# Altium integrated library Component_Footprints.IntLib: 11 symbols
Pins are listed as number, name and electrical type; pins without a type are passive.

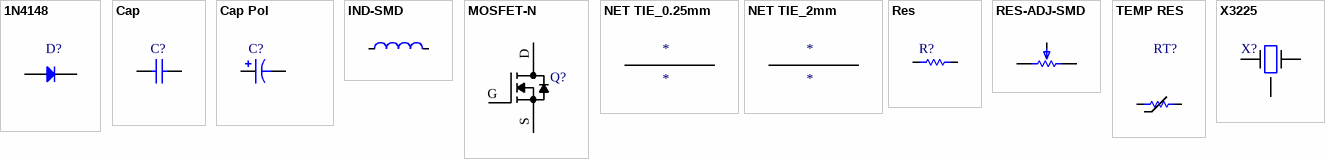
[diagram p0: symbols 1N4148 to X3225]

## 1N4148
designator D?
High Conductance Fast Diode; Published: 8-Jun-2000; LatestRevisionDate: 17-Jul-2002; LatestRevisionNote: Re-released for DXP Platform.; DatasheetVersion: 1997; PackageReference: DO-35; Publisher: Altium Limited; PackageDescription: Diode, Axial; Body 3.8 x 1.9 mm (LxDia. max), Lead Dia. 0.53 mm (max); Code_JEDEC: DO-204-AH; ComponentLink1Description: Manufacturer Link; ComponentLink1URL: http://www.fairchildsemi.com/; ComponentLink2Description: Datasheet; ComponentLink2URL: http://www.fairchildsemi.com/ds/1N%2F1N4148.pdf
footprint SOD-523F (L1.2-W0.8-LS1.7-RD)
footprint SOD-123F (L2.7-W1.6-LS3.8-RD)
pins: 1 K, 2 A

## Cap
designator C?
Capacitor; Published: 8-Jun-2000; LatestRevisionDate: 17-Jul-2002; LatestRevisionNote: Re-released for DXP Platform.; PackageReference: RAD-0.3; Publisher: Altium Limited; PackageDescription: Radial Cap, Thru-Hole; 2 Leads; 0.3 in Pin Spacing
simulation model CAP (Capacitor)
signal-integrity model Cap
footprint C0805
footprint C0603
footprint C1206
footprint C0402
pins: 1, 2

## Cap Pol
designator C?
Polarized Capacitor (Axial); Published: 8-Jun-2000; LatestRevisionDate: 17-Jul-2002; LatestRevisionNote: Re-released for DXP Platform.; PackageReference: POLAR0.8; Publisher: Altium Limited; PackageDescription: Polarized Capacitor; 2 Leads
simulation model CAP (Capacitor)
signal-integrity model Cap Pol
footprint CAP-SMD_BD4.0-L4.3-W4.3-FD-LS5.3
footprint CAP-SMD_L3.5-W2.8-R-RD (tantalum capacitor)
pins: 1, 2
1 alternate drawing of the same symbol

## IND-SMD
designator L?, comment MCS0630-100MPY1  (value not drawn)
电感值:10uH;精度:±20%;额定电流:4A;饱和电流(Isat):5.5A;直流电阻(DCR):62mΩ;; Manufacturer: PSA(信昌电陶); Name: 10uH; Add into BOM: yes; Value: 10uH; Tolerance: ±20%; Rated Current: 4A; Saturation Current (Isat): 5.5A; DC Resistance (DCR): 62mΩ; Symbol: MCS0630-100MPY1; Device: MCS0630-100MPY1; LCSC Part Name: 10uH ±20% 4A 62mΩ; Supplier Part: C2937094; Manufacturer Part: MCS0630-100MPY1; Supplier Footprint: 0630; JLCPCB Part Class: Extended Part; Datasheet: https://atta.szlcsc.com/upload/public/pdf/source/20220121/EA6E6E6F70ED7BAE67EC293805EAAACB.pdf; Supplier: LCSC; Convert to PCB: yes
footprint IND-SMD_L7.3-W6.6
3D model IND-SMD_L7.1-W6.6-H2.8
pins: 1, 2

## MOSFET-N
designator Q?, comment NTMFS4935NT1G  (value not drawn)
MOSFET – Power, Single, / N-Channel, SO-8 FL / 30 V, 93 A; Manufacturer: ON Semiconductor; Drain to Source Voltage (Vdss): 30V; Current - Continuous Drain (Id) @ 25°C: 13A (Ta), 93A (Tc); Drive Voltage (Max Rds On,  Min Rds On): 4.5V, 10V; Vgs(th) (Max) @ Id: 2.2V @ 250µA; Gate Charge (Qg) (Max) @ Vgs: 49.4nC @ 10V; Input Capacitance (Ciss) (Max) @ Vds: 4850pF @ 15V; Vgs (Max): ±20V; Power Dissipation (Max): 930mW (Ta), 48W (Tc); Rds On (Max) @ Id, Vgs: 3.2 mOhm @ 30A, 10V; Supplier 1: Digi-Key; Supplier Part Number 1: NTMFS4935NT1GOSCT-ND; RoHS: RoHS Compliant; Category: Discrete Semiconductor Products; Stock 1: 932; Pricing 1: 1=0.61, 10=0.541, 100=0.4145, 500=0.3277 (USD); Packaging: Cut Tape (CT); Part Status: Active; FET Type: N-Channel; Technology: MOSFET (Metal Oxide); FET Feature: -; Operating Temperature: -55°C ~ 150°C (TJ); Mounting Type: Surface Mount; Supplier Device Package: 5-DFN (5x6) (8-SOFL); Package / Case: 8-PowerTDFN, 5 Leads; ComponentLink1URL: http://www.onsemi.com/pub_link/Collateral/NTMFS4935N-D.PDF; ComponentLink1Description: http://www.onsemi.com/pub_link/Collateral/NTMFS4935N-D.PDF; Manufacturer Part Number: NTMFS4935NT1G
footprint SO-8-FL_L4.8-W5.8-P1.27-LS6.1-L
pins: D, G, S

## NET TIE_0.25mm
designator *
footprint NetTie_0.25mm (Net tie, 0.25mm)
pins: 1, 2

## NET TIE_2mm
designator *
footprint NetTie_2mm (Net tie, 2mm round)
pins: 1, 2

## Res
designator R?
Resistor; Published: 8-Jun-2000; LatestRevisionDate: 17-Jul-2002; LatestRevisionNote: Re-released for DXP Platform.; PackageReference: AXIAL-0.3; Publisher: Altium Limited; PackageDescription: Axial Device, Thru-Hole; 2 Leads; 0.3 in Pin Spacing
simulation model RESISTOR (Resistor)
signal-integrity model Res
footprint R0603
footprint R0805
footprint R0402
footprint R2512
pins: 1, 2

## RES-ADJ-SMD
designator RV?, comment VG039NCHXTB503  (value not drawn)
阻值:50kΩ;精度:±25%;功率:150mW;圈数:1;额定电压:-;; Manufacturer: HDK(北陆电气); Name: 50kΩ; Add into BOM: yes; Value: 50kΩ; Tolerance: ±25%; Power(Watts): 150mW; Turns: 1; Symbol: VG039NCHXTB503; Device: VG039NCHXTB503; LCSC Part Name: VG039NCHXTB503; Supplier Part: C145161; Manufacturer Part: VG039NCHXTB503; Supplier Footprint: SMD; JLCPCB Part Class: Extended Part; Datasheet: https://atta.szlcsc.com/upload/public/pdf/source/20171123/C145161_15114111011641137837.pdf; Supplier: LCSC; Convert to PCB: yes; Rated Voltage: -
footprint RES-ADJ-SMD (VG039NCH)
3D model RES-ADJ-SMD_3P-L3.8-W3.0-H1.2-P1.90
pins: 1, 2, 3

## TEMP RES
designator RT?, comment NCP15XH103F03RC  (value not drawn)
THERMISTOR 10K OHM NTC 0402 SMD
footprint R0402
footprint R0603
footprint R0805
pins: 1, 2

## X3225
designator X?
Crystal 8MHz ±10ppm 10pF 200 Ohm -10°C ~ 60°C Surface Mount 4-SMD, No Lead (DFN, LCC); Manufacturer: Abracon LLC; Manufacturer Part Number: ABM3B-8.000MHZ-10-1-U-T; Operating Mode: Fundamental; Supplier 1: Digi-Key; Supplier Part Number 1: 535-9721-1-ND; RoHS: RoHS Compliant; Category: Crystals, Oscillators, Resonators; Stock: 35437; Pricing 1: 1=0.69, 10=0.578, 50=0.5198, 100=0.462, 500=0.4389 (USD); Packaging: Cut Tape (CT); Part Status: Active; Type: MHz Crystal; Frequency Stability: ±10ppm; Frequency Tolerance: ±10ppm; Load Capacitance: 10pF; Operating Temperature: -10°C ~ 60°C; Ratings: -; Mounting Type: Surface Mount; Package / Case: 4-SMD, No Lead; Size / Dimension: 0.197" L x 0.126" W (5.00mm x 3.20mm); Height - Seated (Max): 0.043" (1.10mm); ComponentLink1URL: http://www.abracon.com/Resonators/abm3b.pdf; ComponentLink1Description: http://www.abracon.com/Resonators/abm3b.pdf; Supplier 2: Digi-Key; Supplier Part Number 2: 535-9721-2-ND; Pricing 2: 1000=0.336, 3000=0.315, 5000=0.3045, 10000=0.294 (USD)
footprint CRYSTAL_3225 (4P-L3.2-W2.5-BL-2)
pins: 1, 3, G